# EAGLE library part MAX98357A,B (library FaBo-AudioIC)
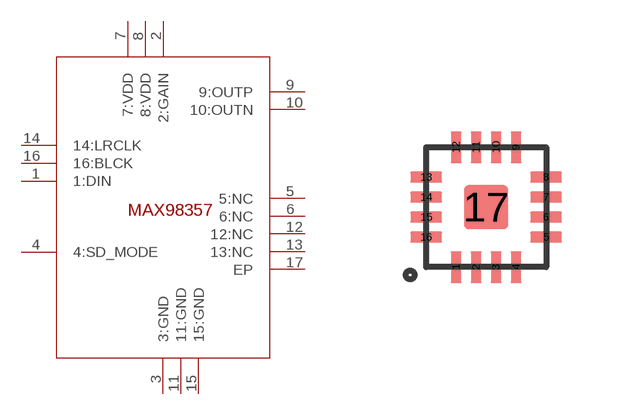
[diagram p0: symbol with the pads of TQFN(16L3*3*0.75); footprint TQFN(16L3*3*0.75)]

Designator prefix -

## MAX98357A,B  [TQFN(16L3*3*0.75)]
1  1:DIN
2  2:GAIN
3  3:GND
4  4:SD_MODE
5  5:NC  nc
6  6:NC  nc
7  7:VDD
8  8:VDD
9  9:OUTP
10  10:OUTN
11  11:GND
12  12:NC  nc
13  13:NC  nc
14  14:LRCLK
15  15:GND
16  16:BLCK
17  EP

## Footprint TQFN(16L3*3*0.75) (pad centres in mm)
smd 0.28 x 0.8: 1 -0.75,-1.5; 2 -0.25,-1.5; 3 0.25,-1.5; 4 0.75,-1.5; 9 0.75,1.5; 10 0.25,1.5; 11 -0.25,1.5; 12 -0.75,1.5
smd 0.8 x 0.28: 5 1.5,-0.75; 6 1.5,-0.25; 7 1.5,0.25; 8 1.5,0.75; 13 -1.5,0.75; 14 -1.5,0.25; 15 -1.5,-0.25; 16 -1.5,-0.75
smd 1.1 x 1.1: 17 0,0